# Altium footprint library SOTFL50P162X60-6N.PcbLib: 1 footprints
Each footprint in its own frame and in the unit in brackets; x right, y up, seen from the top. Pads: shape width x height; smd on the part's side, far side on the other; paste and mask are expansions set on the pad; w line width, h text height; cw(c..) or ccw(c..) is an arc to the next point about the centre after c.
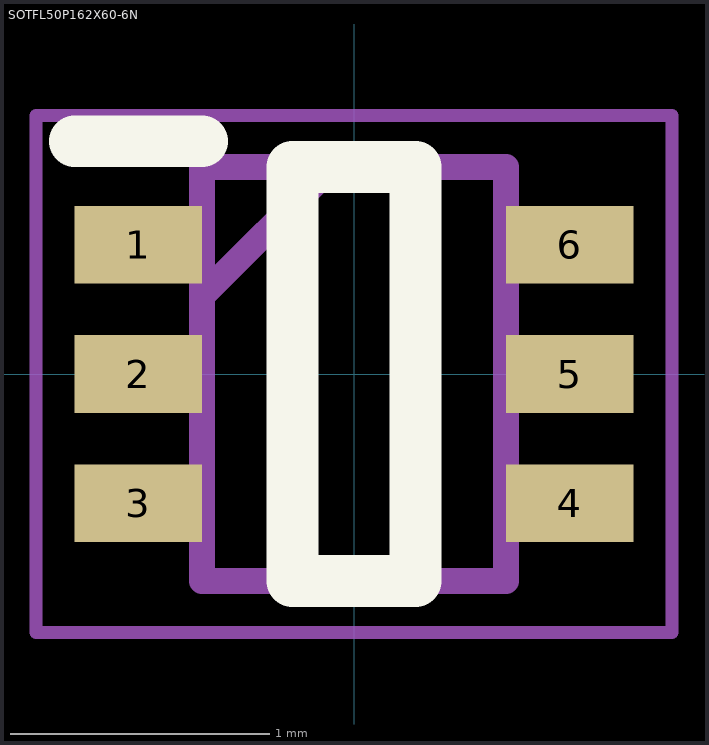
[diagram p0: the footprint, top view; thin cyan lines are the x and y axes]

## SOTFL50P162X60-6N [mm]
pads (6):
  rect 0.492x0.3 smd: 1(-0.834,0.5) 2(-0.834,0) 3(-0.834,-0.5) 4(0.834,-0.5) 5(0.834,0) 6(0.834,0.5)
Top Overlay:
  lines w0.2: -1.08,0.9 -0.588,0.9 ; -0.238,-0.8 0.238,-0.8 0.238,0.8 -0.238,0.8 -0.238,-0.8
Mechanical 15:
  lines w0.1: -0.588,0.3 -0.088,0.8 ; -0.588,-0.8 0.588,-0.8 0.588,0.8 -0.588,0.8 -0.588,-0.8
Mechanical 20:
  lines w0.05: -1.23,-1 1.23,-1 1.23,1 -1.23,1 -1.23,-1
3D body "DMG1029SV-7.stp": height 5.8, standoff -4.65, extent -10,-3.376 10,3.376